# EAGLE library part DREHSTROMZAEHLER (library e-messinstrumente)
Energiezähler, Wattstundenzähler
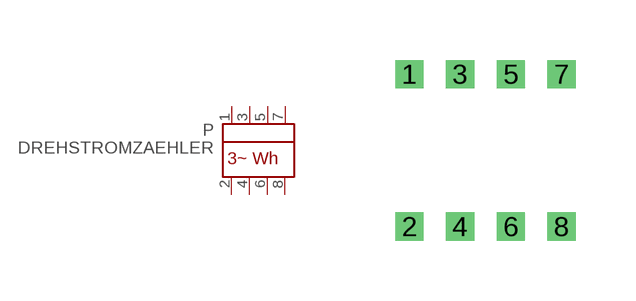
[diagram p0: symbol with the pads of DREHSTROMZAEHLER; footprint DREHSTROMZAEHLER]

Designator prefix P

## DREHSTROMZAEHLER  [DREHSTROMZAEHLER]
1  I1  pas
2  I2  pas
3  U1  pas
4  U2  pas
5  U3  pas
6  U4  pas
7  U5  pas
8  U6  pas

## Footprint DREHSTROMZAEHLER (pad centres in mm)
Dummy
drill 0.2 pad 0.6 square: 1 -0.635,1.905; 2 -0.635,-1.905; 3 0.635,1.905; 4 0.635,-1.905; 5 1.905,1.905; 6 1.905,-1.905; 7 3.175,1.905; 8 3.175,-1.905